# Altium schematic symbol library SI8380P-IU.SchLib: 1 symbol
Pins are listed as number, name and electrical type; pins without a type are passive.

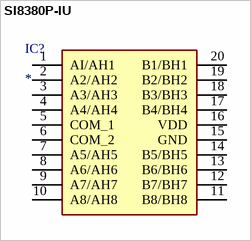
[diagram p0: symbol SI8380P-IU]

## SI8380P-IU
designator IC?
Integrated Circuit; Manufacturer_Name: Silicon Labs; Manufacturer_Part_Number: SI8380P-IU; Description: Digital Isolators 2.5kV PLC Input ISO w/8 Parallel Outputs; Datasheet Link: https://componentsearchengine.com/Datasheets/1/SI8380P-IU.pdf; Height: 1.75mm; Mouser Part Number: 634-SI8380P-IU; Mouser Price/Stock: https://www.mouser.com/Search/Refine.aspx?Keyword=634-SI8380P-IU
footprint SOP64P600X175-20N
pins: 1 AI/AH1, 2 A2/AH2, 3 A3/AH3, 4 A4/AH4, 5 COM_1, 6 COM_2, 7 A5/AH5, 8 A6/AH6, 9 A7/AH7, 10 A8/AH8, 11 B8/BH8, 12 B7/BH7, 13 B6/BH6, 14 B5/BH5, 15 GND, 16 VDD, 17 B4/BH4, 18 B3/BH3, 19 B2/BH2, 20 B1/BH1